# Altium schematic symbol library C165948.SchLib: 1 symbol
Pins are listed as number, name and electrical type; pins without a type are passive.

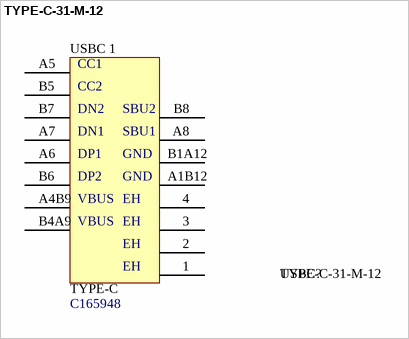
[diagram p0: symbol TYPE-C-31-M-12]

## TYPE-C-31-M-12
designator USBC?  Name: C165948
USB-C (USB TYPE-C) Receptacle Connector 16 Position Surface Mount; Source: LCSC
footprint USB-C_SMD-TYPE-C-31-M-12_1 (USB-C (USB TYPE-C) Receptacle Connector 16 Position Surface Mount)
pins: 1, 2, 3, 4, A1B12 5, A4B9 B9, A5 B11, A6 B15, A7 B14, A8 7, B1A12 6, B4A9 B10, B5 B12, B6 B16, B7 B13, B8 8
text: USBC 1; CC1; CC2; DN2; SBU2; DN1; SBU1; DP1; GND; DP2; VBUS; EH; TYPE-C